# Altium footprint library 开关.PcbLib: 10 footprints
Each footprint in its own frame and in the unit in brackets; x right, y up, seen from the top. Pads: shape width x height; smd on the part's side, far side on the other; paste and mask are expansions set on the pad; w line width, h text height; cw(c..) or ccw(c..) is an arc to the next point about the centre after c.
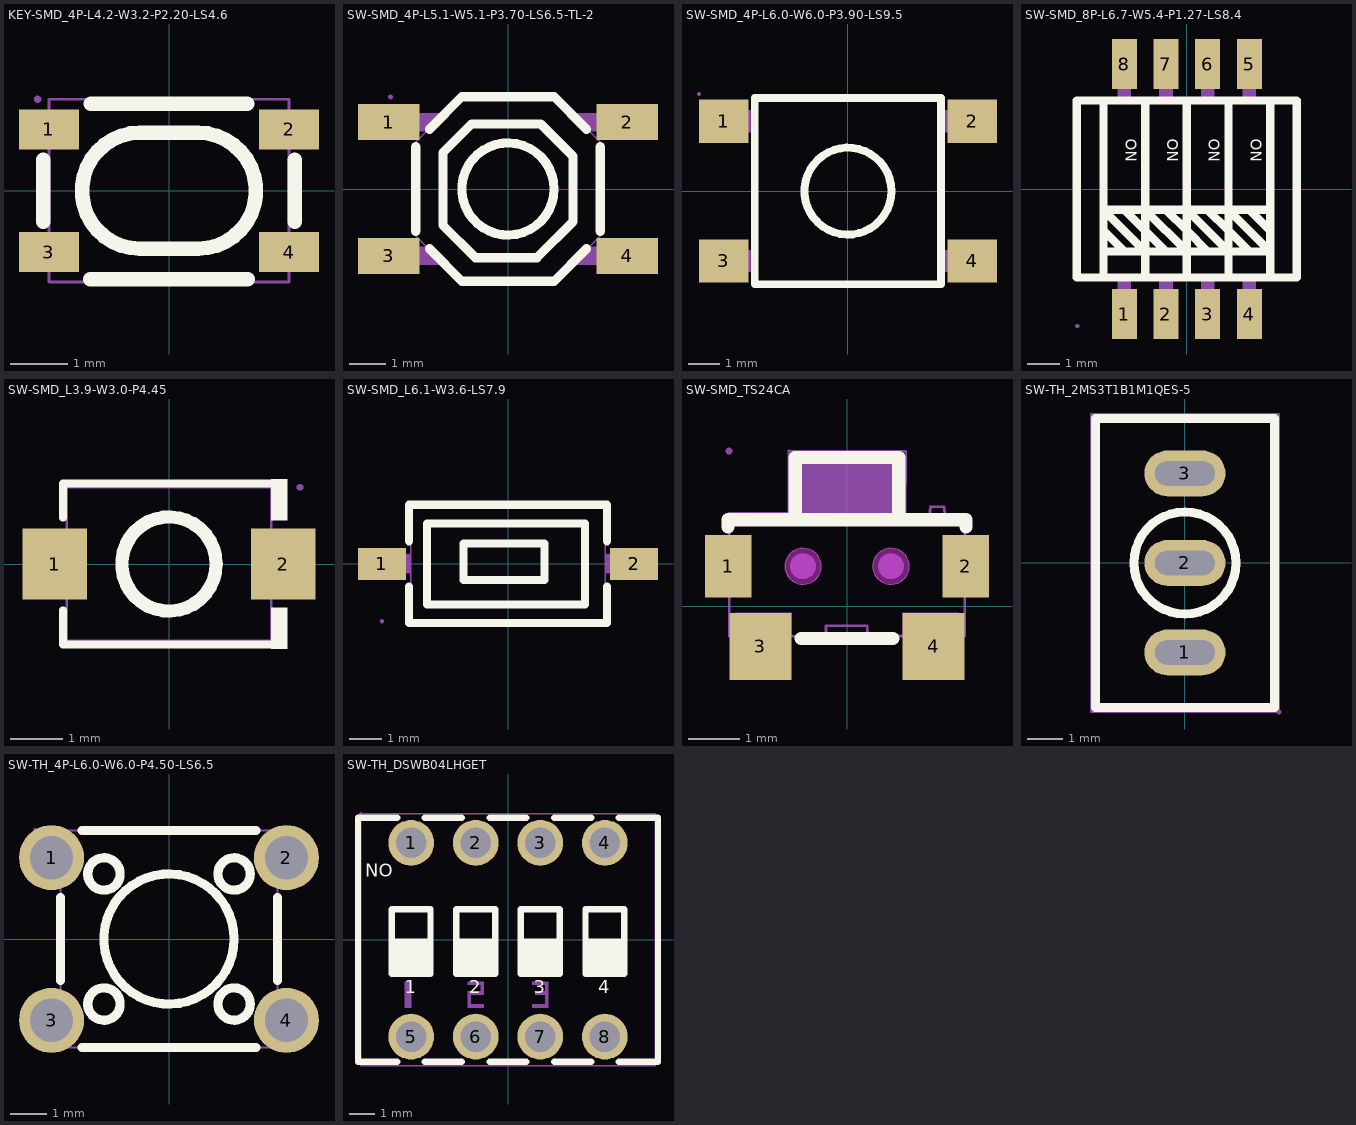
[diagram p0: the footprints below, top view; thin cyan lines are the x and y axes]

## KEY-SMD_4P-L4.2-W3.2-P2.20-LS4.6 [mm]
pads (4):
  rect 1.05x0.7 smd: 1(-2.1,1.075) 2(2.1,1.075) 3(-2.1,-1.075) 4(2.1,-1.075)
Top Overlay:
  lines w0.254: -2.2,-0.544 -2.2,0.544 ; -1.381,-1.55 1.381,-1.55 ; -1.366,1.524 1.366,1.524 ; 2.2,-0.544 2.2,0.544 ; -0.508,-1.016 cw(c-0.508,0) -0.508,1.016 0.508,1.016 cw(c0.508,0) 0.508,-1.016 -0.508,-1.016
Mechanical 15:
  region: -2.35,1.35 -1.65,1.35 -1.65,0.8 -2.35,0.8
  region: 1.651,1.35 2.351,1.35 2.351,0.8 1.651,0.8
  region: -2.35,-0.8 -1.65,-0.8 -1.65,-1.35 -2.35,-1.35
  region: 1.651,-0.8 2.351,-0.8 2.351,-1.35 1.651,-1.35
  region: -2.24,1.6 -2.24,1.625 -2.275,1.66 -2.325,1.66 -2.36,1.625 -2.36,1.6 -2.36,1.575 -2.325,1.54 -2.275,1.54 -2.24,1.575 -2.24,1.6
  lines w0.051: -2.1,-1.6 -2.1,1.6 2.1,1.6 2.1,-1.6 -2.1,-1.6

## SW-SMD_4P-L5.1-W5.1-P3.70-LS6.5-TL-2 [mm]
pads (4):
  rect 1.7x1 smd: 1(-3.3,1.85) 2(3.3,1.85) 3(-3.3,-1.85) 4(3.3,-1.85)
Top Overlay:
  circle w0.254: c0,0 r1.275
  lines w0.254: -2.55,-1.168 -2.55,1.168 ; -2.17,-1.655 -1.275,-2.55 1.275,-2.55 2.17,-1.655 ; -2.17,1.655 -1.275,2.55 1.275,2.55 2.17,1.655 ; 2.55,-1.168 2.55,1.168 ; -1.801,-0.998 -1.801,1.001 -1.001,1.801 0.899,1.801 1.801,0.899 1.801,-0.899 0.8,-1.9 -0.899,-1.9 -1.801,-0.998
Mechanical 15:
  region: -2.2,1.599 -1.7,2.099 -2.86,2.1 -2.86,1.6
  region: 2.201,-1.601 1.701,-2.101 2.861,-2.101 2.861,-1.601
  region: -2.2,-1.6 -1.7,-2.1 -2.86,-2.1 -2.86,-1.6
  region: -3.25,-2.1 -3.25,-1.6 -2.85,-1.6 -2.85,-2.1
  region: -3.25,1.599 -3.25,2.099 -2.85,2.099 -2.85,1.599
  region: 2.85,1.6 2.85,2.1 3.25,2.1 3.25,1.6
  region: 2.2,1.6 1.7,2.1 2.86,2.1 2.86,1.6
  region: 2.85,-2.1 2.85,-1.6 3.25,-1.6 3.25,-2.1
  region: -3.19,2.55 -3.19,2.575 -3.225,2.61 -3.275,2.61 -3.31,2.575 -3.31,2.55 -3.31,2.525 -3.275,2.49 -3.225,2.49 -3.19,2.525 -3.19,2.55
  lines w0.051: -2.55,-1.3 -2.55,1.3 -1.3,2.55 1.3,2.55 2.55,1.3 2.55,-1.3 1.3,-2.55 -1.3,-2.55 -2.55,-1.3

## SW-SMD_4P-L6.0-W6.0-P3.90-LS9.5 [mm]
pads (4):
  rect 1.6x1.4 smd: 1(-4,2.25) 2(4,2.25) 3(-4,-2.25) 4(4,-2.25)
Top Overlay:
  circle w0.254: c0,0 r1.4
  lines w0.254: -3,-3 -3,3 3,3 3,-3 -3,-3
Mechanical 15:
  region: 3.7,1.9 3.7,2.6 4.5,2.6 4.5,1.9
  region: 2.99,1.9 2.99,2.6 3.71,2.6 3.71,1.9
  region: 3.7,-2.6 3.7,-1.9 4.5,-1.9 4.5,-2.6
  region: 2.99,-2.6 2.99,-1.9 3.71,-1.9 3.71,-2.6
  region: -4.5,-2.6 -4.5,-1.9 -3.7,-1.9 -3.7,-2.6
  region: -3.71,-2.6 -3.71,-1.9 -2.99,-1.9 -2.99,-2.6
  region: -4.5,1.9 -4.5,2.6 -3.7,2.6 -3.7,1.9
  region: -3.71,1.9 -3.71,2.6 -2.99,2.6 -2.99,1.9
  region: -4.741,3.127 -4.741,3.152 -4.776,3.187 -4.825,3.187 -4.86,3.152 -4.86,3.127 -4.86,3.102 -4.825,3.067 -4.776,3.067 -4.741,3.102 -4.741,3.127
  lines w0.051: -3,-3 3,-3 3,3 -3,3 -3,-3

## SW-SMD_8P-L6.7-W5.4-P1.27-LS8.4 [mil]
pads (8):
  rect 30x60 smd: 1(-75,-150) 2(-25,-150) 3(25,-150) 4(75,-150) 5(75,150) 6(25,150) 7(-25,150) 8(-75,150)
Top Overlay:
  lines w10: -100,-100 -100,100 ; -100,-75 -50,-75 ; -100,-50 -75,-75 ; -75,-25 -50,-50 -25,-75 ; -25,-25 0,-50 25,-75 ; 25,-25 50,-50 75,-75 ; 75,-25 100,-50 ; 100,-100 100,100 ; 100,-25 50,-25 ; -50,-100 -50,100 ; -50,-100 -50,100 ; -50,-100 -50,100 ; -50,-100 -50,100 ; -50,-75 -100,-25 -50,-25 ; -50,-75 0,-75 ; -50,-25 0,-75 ; -50,-25 0,-25 ; 0,-100 0,100 ; 0,-100 0,100 ; 0,-100 0,100 ; 0,-75 50,-75 ; 0,-25 50,-25 ; 0,-25 50,-75 ; 50,-75 100,-75 50,-25 ; -131.88,-106.3 -131.88,106.3 131.89,106.3 131.89,-106.3 -131.88,-106.3 ; 50,-100 50,100 50,-100
  text "ON" at 76.44,60.54 h12.98
  text "ON" at 26.44,60.54 h12.98
  text "ON" at -23.55,60.54 h12.98
  text "ON" at -73.55,60.54 h12.98
Mechanical 6:
  region: -80.62,-145.02 -80.58,-142.59 -76.25,-142.59 -76.25,-121.17 -77.01,-120.41 -79.95,-120.61 -76.76,-117.41 -73.81,-117.46 -73.81,-142.55 -69.21,-142.63 -69.18,-145
  region: -30.7,-122.2 -30.7,-120.97 -29.75,-118.69 -28.01,-116.94 -25.73,-116 -24.5,-116 -22.5,-116 -21.32,-116 -19.15,-116.9 -17.49,-118.56 -16.6,-120.73 -16.6,-121.9 -16.6,-123.2 -26.8,-140.4 -14.55,-140.32 -14.45,-143.52 -31.2,-143.52 -31.25,-140.42 -19.45,-122.92 -19.47,-122.46 -19.65,-121.56 -20,-120.7 -20.51,-119.94 -20.82,-119.59 -20.85,-119.57 -20.91,-119.52 -21.05,-119.42 -21.2,-119.36 -21.37,-119.33 -21.45,-119.32 -26.45,-119.32 -26.78,-119.36 -27.39,-119.61 -27.86,-120.08 -28.11,-120.69 -28.15,-121.02 -28.15,-121.87
Mechanical 15:
  region: -129.13,-164.37 -129.13,-163.39 -130.51,-162.01 -132.47,-162.01 -133.85,-163.39 -133.85,-164.37 -133.85,-165.35 -132.47,-166.73 -130.51,-166.73 -129.13,-165.35 -129.13,-164.37
  region: 82.88,132.09 82.88,105.91 67.13,105.91 67.13,132.09
  region: 82.88,164.37 82.88,131.69 67.13,131.69 67.13,164.37
  region: 82.88,-105.91 82.88,-132.09 67.13,-132.09 67.13,-105.91
  region: 82.88,-131.69 82.88,-164.37 67.13,-164.37 67.13,-131.69
  region: -67.12,-105.91 -67.12,-132.09 -82.87,-132.09 -82.87,-105.91
  region: -67.12,-131.69 -67.12,-164.37 -82.87,-164.37 -82.87,-131.69
  region: -67.12,132.09 -67.12,105.91 -82.87,105.91 -82.87,132.09
  region: -67.12,164.37 -67.12,131.69 -82.87,131.69 -82.87,164.37
  region: -17.12,132.09 -17.12,105.91 -32.87,105.91 -32.87,132.09
  region: -17.12,164.37 -17.12,131.69 -32.87,131.69 -32.87,164.37
  region: -17.12,-105.91 -17.12,-132.09 -32.87,-132.09 -32.87,-105.91
  region: -17.12,-131.69 -17.12,-164.37 -32.87,-164.37 -32.87,-131.69
  region: 32.88,-105.91 32.88,-132.09 17.13,-132.09 17.13,-105.91
  region: 32.88,-131.69 32.88,-164.37 17.13,-164.37 17.13,-131.69
  region: 32.88,132.09 32.88,105.91 17.13,105.91 17.13,132.09
  region: 32.88,164.37 32.88,131.69 17.13,131.69 17.13,164.37
  lines w2: -131.49,-106.3 131.5,-106.3 131.5,106.3 -131.49,106.3 -131.49,-106.3

## SW-SMD_L3.9-W3.0-P4.45 [mm]
pads (2):
  rect 1.23x1.36 smd: 1(-2.185,0) 2(2.185,0)
Top Overlay:
  circle w0.254: c0,0 r0.9
  region: 1.95,1.617 1.95,0.832 2.255,0.832 2.255,1.617
  region: 1.95,-1.617 1.95,-0.832 2.255,-0.832 2.255,-1.617
  lines w0.152: -2.026,-0.883 -2.026,-1.541 2.026,-1.541 ; -2.026,0.883 -2.026,1.541 2.026,1.541
Mechanical 15:
  region: -2.5,0.65 -2.5,-0.65 -1.6,-0.65 -1.6,0.65
  region: 2.5,0.65 2.5,-0.65 1.6,-0.65 1.6,0.65
  region: 2.56,1.465 2.56,1.49 2.525,1.525 2.475,1.525 2.44,1.49 2.44,1.465 2.44,1.44 2.475,1.405 2.525,1.405 2.56,1.44 2.56,1.465
  lines w0.051: -1.95,-1.465 -1.95,1.465 1.95,1.465 1.95,-1.465 -1.95,-1.465

## SW-SMD_L6.1-W3.6-LS7.9 [mm]
pads (2):
  rect 1.5x1 smd: 1(-3.95,0) 2(3.95,0)
Top Overlay:
  lines w0.254: -3.1,-0.708 -3.1,-1.85 3.1,-1.85 3.1,-0.708 ; -3.1,0.708 -3.1,1.85 3.1,1.85 3.1,0.708 ; -2.54,-1.27 2.413,-1.27 2.413,1.27 -2.54,1.27 -2.54,-1.27 ; -1.397,-0.508 -1.397,0.635 1.143,0.635 1.143,-0.508 -1.397,-0.508
Mechanical 15:
  region: -3.89,-1.8 -3.89,-1.775 -3.925,-1.74 -3.975,-1.74 -4.01,-1.775 -4.01,-1.8 -4.01,-1.825 -3.975,-1.86 -3.925,-1.86 -3.89,-1.825 -3.89,-1.8
  region: -3.46,-0.3 -3.46,0.3 -3.04,0.3 -3.04,-0.3
  region: -3.95,-0.3 -3.95,0.3 -3.45,0.3 -3.45,-0.3
  region: 3.04,-0.3 3.04,0.3 3.46,0.3 3.46,-0.3
  region: 3.45,-0.3 3.45,0.3 3.95,0.3 3.95,-0.3
  lines w0.051: -3.05,-1.8 -3.05,1.8 3.05,1.8 3.05,-1.8 -3.05,-1.8

## SW-SMD_TS24CA [mm]
pads (4):
  rect 0.9x1.2 smd: 1(-2.3,0.775) 2(2.3,0.775)
  rect 1.2x1.3 smd: 3(-1.675,-0.775) 4(1.675,-0.775)
Top Overlay:
  lines w0.254: -2.3,1.537 -2.3,1.675 2.3,1.675 2.3,1.537 ; -1,1.675 -1,2.875 1,2.875 1,1.675 ; -0.889,-0.625 0.889,-0.625
Keep-Out Layer:
  board cut-out: -0.5,0.775 -0.5,0.845 -0.553,0.973 -0.652,1.072 -0.78,1.125 -0.92,1.125 -1.048,1.072 -1.147,0.973 -1.2,0.845 -1.2,0.775 -1.2,0.705 -1.147,0.577 -1.048,0.478 -0.92,0.425 -0.78,0.425 -0.652,0.478 -0.553,0.577 -0.5,0.705 -0.5,0.775
  board cut-out: 1.2,0.775 1.2,0.845 1.147,0.973 1.048,1.072 0.92,1.125 0.781,1.125 0.652,1.072 0.553,0.973 0.5,0.845 0.5,0.775 0.5,0.705 0.553,0.577 0.652,0.478 0.781,0.425 0.92,0.425 1.048,0.478 1.147,0.577 1.2,0.705 1.2,0.775
Mechanical 1:
  circle w0.005: c-0.85,0.775 r0.35
  circle w0.005: c0.85,0.775 r0.35
Mechanical 6:
  circle w0.25: c0.85,0.775 r0.125
  circle w0.25: c-0.85,0.775 r0.125
  region: -1.016,1.778 -1.016,2.921 1.016,2.921 1.016,1.778
Mechanical 15:
  region: -2.22,3.002 -2.22,3.027 -2.255,3.062 -2.305,3.062 -2.34,3.027 -2.34,3.002 -2.34,2.977 -2.305,2.942 -2.255,2.942 -2.22,2.977 -2.22,3.002
  region: -2.175,0.725 -2.274,0.725 -2.275,0.726 -2.275,1.374 -2.273,1.376 -2.175,1.376 -2.175,0.726 -2.18,0.726 -2.193,0.725
  region: 2.165,0.725 2.275,0.725 2.275,0.726 2.275,1.375 2.166,1.375 2.166,0.726
  region: -2.155,-0.125 -2.155,-0.575 -1.905,-0.575 -1.904,-0.575 -1.904,-0.675 -1.905,-0.675 -1.505,-0.675 -1.505,-0.674 -1.505,-0.575 -1.076,-0.575 -1.075,-0.574 -1.075,-0.125 -1.076,-0.125 -2.154,-0.125 -2.154,-0.126
  region: -2.154,-0.126 -2.154,-0.132 -2.154,-0.126
  region: 2.146,-0.124 2.146,-0.573 1.897,-0.573 1.896,-0.573 1.896,-0.673 1.897,-0.673 1.497,-0.673 1.497,-0.573 1.075,-0.575 1.075,-0.576 1.075,-0.462 1.075,-0.349 1.075,-0.127 1.076,-0.125 2.146,-0.123 2.146,-0.124
  region: 2.146,-0.124 2.146,-0.131 2.146,-0.124
  lines w0.051: -0.406,-0.574 -0.405,-0.374 0.395,-0.375 0.396,-0.575 1.496,-0.575 1.496,-0.675 1.894,-0.675 1.895,-0.575 2.145,-0.574 2.274,-0.577 2.275,1.724 1.897,1.727 1.876,1.926 1.615,1.925 1.595,1.725 1.127,1.727 1.138,3.002 -1.124,3.002 -1.128,1.804 -2.28,1.801 -2.275,-0.575 -1.905,-0.575 -1.904,-0.674 -1.506,-0.674 -1.505,-0.575 -0.406,-0.574 ; -0.406,-0.574 -0.406,-0.574
Multi-Layer keep-out:
  region: -0.5,0.775 -0.5,0.845 -0.553,0.973 -0.652,1.072 -0.78,1.125 -0.92,1.125 -1.048,1.072 -1.147,0.973 -1.2,0.845 -1.2,0.775 -1.2,0.705 -1.147,0.577 -1.048,0.478 -0.92,0.425 -0.78,0.425 -0.652,0.478 -0.553,0.577 -0.5,0.705 -0.5,0.775
  region: 1.2,0.775 1.2,0.845 1.147,0.973 1.048,1.072 0.92,1.125 0.781,1.125 0.652,1.072 0.553,0.973 0.5,0.845 0.5,0.775 0.5,0.705 0.553,0.577 0.652,0.478 0.781,0.425 0.92,0.425 1.048,0.478 1.147,0.577 1.2,0.705 1.2,0.775

## SW-TH_2MS3T1B1M1QES-5 [mm]
pads (3):
  oval 2.3x1.3 hole 0.7 slot 1.7 at 0 deg: 1(0,-2.54) 2(0,0) 3(0,2.54)
Top Overlay:
  circle w0.254: c0,0 r1.448
  lines w0.254: -2.54,-4.1 2.54,-4.1 2.54,4.1 -2.54,4.1 -2.54,-4.1
Mechanical 15:
  region: 2.727,-4.227 2.727,-4.202 2.692,-4.167 2.642,-4.167 2.607,-4.202 2.607,-4.227 2.607,-4.252 2.642,-4.287 2.692,-4.287 2.727,-4.252 2.727,-4.227
  region: -0.5,-2.26 0.5,-2.26 0.5,-2.82 -0.5,-2.82
  region: -0.5,0.28 0.5,0.28 0.5,-0.28 -0.5,-0.28
  region: -0.5,2.82 0.5,2.82 0.5,2.26 -0.5,2.26
  lines w0.051: -2.667,-4.227 2.667,-4.227 2.667,4.227 -2.667,4.227 -2.667,-4.227

## SW-TH_4P-L6.0-W6.0-P4.50-LS6.5 [mm]
pads (4):
  round 1.8 hole 1.2: 1(-3.25,2.25) 2(3.25,2.25) 3(-3.25,-2.25) 4(3.25,-2.25)
Top Overlay:
  circle w0.254: c0,0 r1.8
  circle w0.254: c1.8,1.8 r0.447
  circle w0.254: c-1.8,1.8 r0.447
  circle w0.254: c-1.8,-1.8 r0.447
  circle w0.254: c1.8,-1.8 r0.447
  lines w0.254: -3,-1.147 -3,1.147 ; -2.404,-3 2.404,-3 ; -2.404,3 2.404,3 ; 3,-1.147 3,1.147
Mechanical 15:
  region: -3.64,3 -3.64,3.025 -3.675,3.06 -3.725,3.06 -3.76,3.025 -3.76,3 -3.76,2.975 -3.725,2.94 -3.675,2.94 -3.64,2.975 -3.64,3
  region: -2.9,-1.9 -2.9,-2.6 -3.7,-2.6 -3.7,-1.9
  region: -2.9,2.6 -2.9,1.9 -3.7,1.9 -3.7,2.6
  region: 2.9,1.9 2.9,2.6 3.7,2.6 3.7,1.9
  region: 2.9,-2.6 2.9,-1.9 3.7,-1.9 3.7,-2.6
  region: -3.4,-1.9 -3.1,-1.9 -3.1,-2.6 -3.4,-2.6
  region: -3.4,2.6 -3.1,2.6 -3.1,1.9 -3.4,1.9
  region: 3.1,2.6 3.4,2.6 3.4,1.9 3.1,1.9
  region: 3.1,-1.9 3.4,-1.9 3.4,-2.6 3.1,-2.6
  lines w0.051: -3,-3 3,-3 3,3 -3,3 -3,-3

## SW-TH_DSWB04LHGET [mm]
pads (8):
  round 1.8 hole 1.2: 1(-3.81,3.81) 2(-1.27,3.81) 3(1.27,3.81) 4(3.81,3.81) 5(-3.81,-3.81) 6(-1.27,-3.81) 7(1.27,-3.81) 8(3.81,-3.81)
Top Overlay:
  lines w0.254: -4.572,-1.087 -3.048,-1.087 ; -4.572,-0.833 -3.048,-0.833 ; -4.572,-0.579 -3.048,-0.579 ; -4.572,-0.325 -3.048,-0.325 ; -4.572,-0.071 -3.048,-0.071 ; -4.354,-4.8 -5.9,-4.8 -5.9,4.8 -4.354,4.8 ; -3.266,-4.8 -1.814,-4.8 ; -3.266,4.8 -1.814,4.8 ; -2.032,-1.087 -0.508,-1.087 ; -2.032,-0.833 -0.508,-0.833 ; -2.032,-0.579 -0.508,-0.579 ; -2.032,-0.325 -0.508,-0.325 ; -2.032,-0.071 -0.508,-0.071 ; -0.726,-4.8 0.726,-4.8 ; -0.726,4.8 0.726,4.8 ; 0.508,-1.087 2.032,-1.087 ; 0.508,-0.833 2.032,-0.833 ; 0.508,-0.579 2.032,-0.579 ; 0.508,-0.325 2.032,-0.325 ; 0.508,-0.071 2.032,-0.071 ; 1.814,-4.8 3.266,-4.8 ; 1.814,4.8 3.266,4.8 ; 3.048,-1.087 4.572,-1.087 ; 3.048,-0.833 4.572,-0.833 ; 3.048,-0.579 4.572,-0.579 ; 3.048,-0.325 4.572,-0.325 ; 3.048,-0.071 4.572,-0.071 ; 4.354,-4.8 5.9,-4.8 5.9,4.8 4.354,4.8 ; -4.572,-1.341 -3.048,-1.341 -3.048,1.199 -4.572,1.199 -4.572,-1.341 ; -2.032,-1.341 -0.508,-1.341 -0.508,1.199 -2.032,1.199 -2.032,-1.341 ; 0.508,-1.341 2.032,-1.341 2.032,1.199 0.508,1.199 0.508,-1.341 ; 3.048,-1.341 4.572,-1.341 4.572,1.199 3.048,1.199 3.048,-1.341
  text "NO" at -5.61,2.469 h0.52
  text "1" at -4.064,-2.103 h0.52
  text "2" at -1.524,-2.103 h0.52
  text "3" at 1.016,-2.103 h0.52
  text "4" at 3.556,-2.103 h0.52
Mechanical 6:
  region: -1.46,-1.651 -0.953,-1.651 -0.953,-2.159 -1.46,-2.159 -1.46,-2.54 -0.953,-2.54 -0.953,-2.667 -1.587,-2.667 -1.587,-2.032 -1.079,-2.032 -1.079,-1.778 -1.587,-1.778 -1.587,-1.651
  region: -4.064,-1.651 -4.064,-2.667 -3.81,-2.667 -3.81,-1.651
  region: 1.079,-1.651 1.587,-1.651 1.587,-2.667 1.079,-2.667 0.953,-2.667 0.953,-2.54 1.46,-2.54 1.46,-2.159 1.079,-2.159 1.079,-2.032 1.46,-2.032 1.46,-1.778 0.953,-1.778 0.953,-1.651
Mechanical 15:
  region: -5.73,4.95 -5.73,4.975 -5.765,5.01 -5.815,5.01 -5.85,4.975 -5.85,4.95 -5.85,4.925 -5.815,4.89 -5.765,4.89 -5.73,4.925 -5.73,4.95
  region: 3.51,-3.96 3.51,-3.66 4.11,-3.66 4.11,-3.96
  region: 0.97,-3.96 0.97,-3.66 1.57,-3.66 1.57,-3.96
  region: -1.57,-3.96 -1.57,-3.66 -0.97,-3.66 -0.97,-3.96
  region: -4.11,-3.96 -4.11,-3.66 -3.51,-3.66 -3.51,-3.96
  region: -4.11,3.66 -4.11,3.96 -3.51,3.96 -3.51,3.66
  region: -1.57,3.66 -1.57,3.96 -0.97,3.96 -0.97,3.66
  region: 0.97,3.66 0.97,3.96 1.57,3.96 1.57,3.66
  region: 3.51,3.66 3.51,3.96 4.11,3.96 4.11,3.66
  lines w0.051: -5.79,-4.95 -5.79,4.95 5.79,4.95 5.79,-4.95 -5.79,-4.95